# Altium schematic symbol library mechanical.SchLib: 2 symbols
Pins are listed as number, name and electrical type; pins without a type are passive.

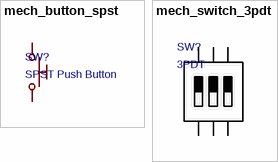
[diagram p0: symbols mech_button_spst to mech_switch_3pdt]

## mech_button_spst
designator SW?, comment SPST Push Button
Single Pole Single Throw Push Button
pins: 1, 2

## mech_switch_3pdt
designator SW?, comment 3PDT
3 Pole Dual Throw switch
pins: 1, 2, 3, 4, 5, 6